# EAGLE library part SLIDE_SWITCH_3POS (library EDS_Eagle_Library)
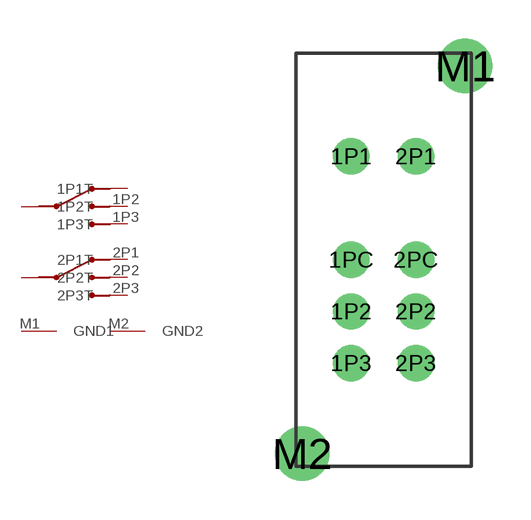
[diagram p6: symbol with the pads of MHS233K_SLIDE_SWITCH; footprint MHS233K_SLIDE_SWITCH]

Designator prefix -

## SLIDE_SWITCH_3POS  [MHS233K_SLIDE_SWITCH]
1P1  1P1T
1P2  1P2T
1P3  1P3T
1PC  1PC
2P1  2P1T
2P2  2P2T
2P3  2P3T
2PC  2PC
M1  GND1
M2  GND2

## Footprint MHS233K_SLIDE_SWITCH (pad centres in mm)
drill 0.9: 1P1 -1.25,4; 1P2 -1.25,-2; 1P3 -1.25,-4; 1PC -1.25,0; 2P1 1.25,4; 2P2 1.25,-2; 2P3 1.25,-4; 2PC 1.25,0
drill 1.4: M1 3.15,7.5; M2 -3.15,-7.5